# Altium footprint library BrewBit.PcbLib: 85 footprints (part 3 of 6)
Each footprint in its own frame and in the unit in brackets; x right, y up, seen from the top. Pads: shape width x height; smd on the part's side, far side on the other; paste and mask are expansions set on the pad; w line width, h text height; cw(c..) or ccw(c..) is an arc to the next point about the centre after c.
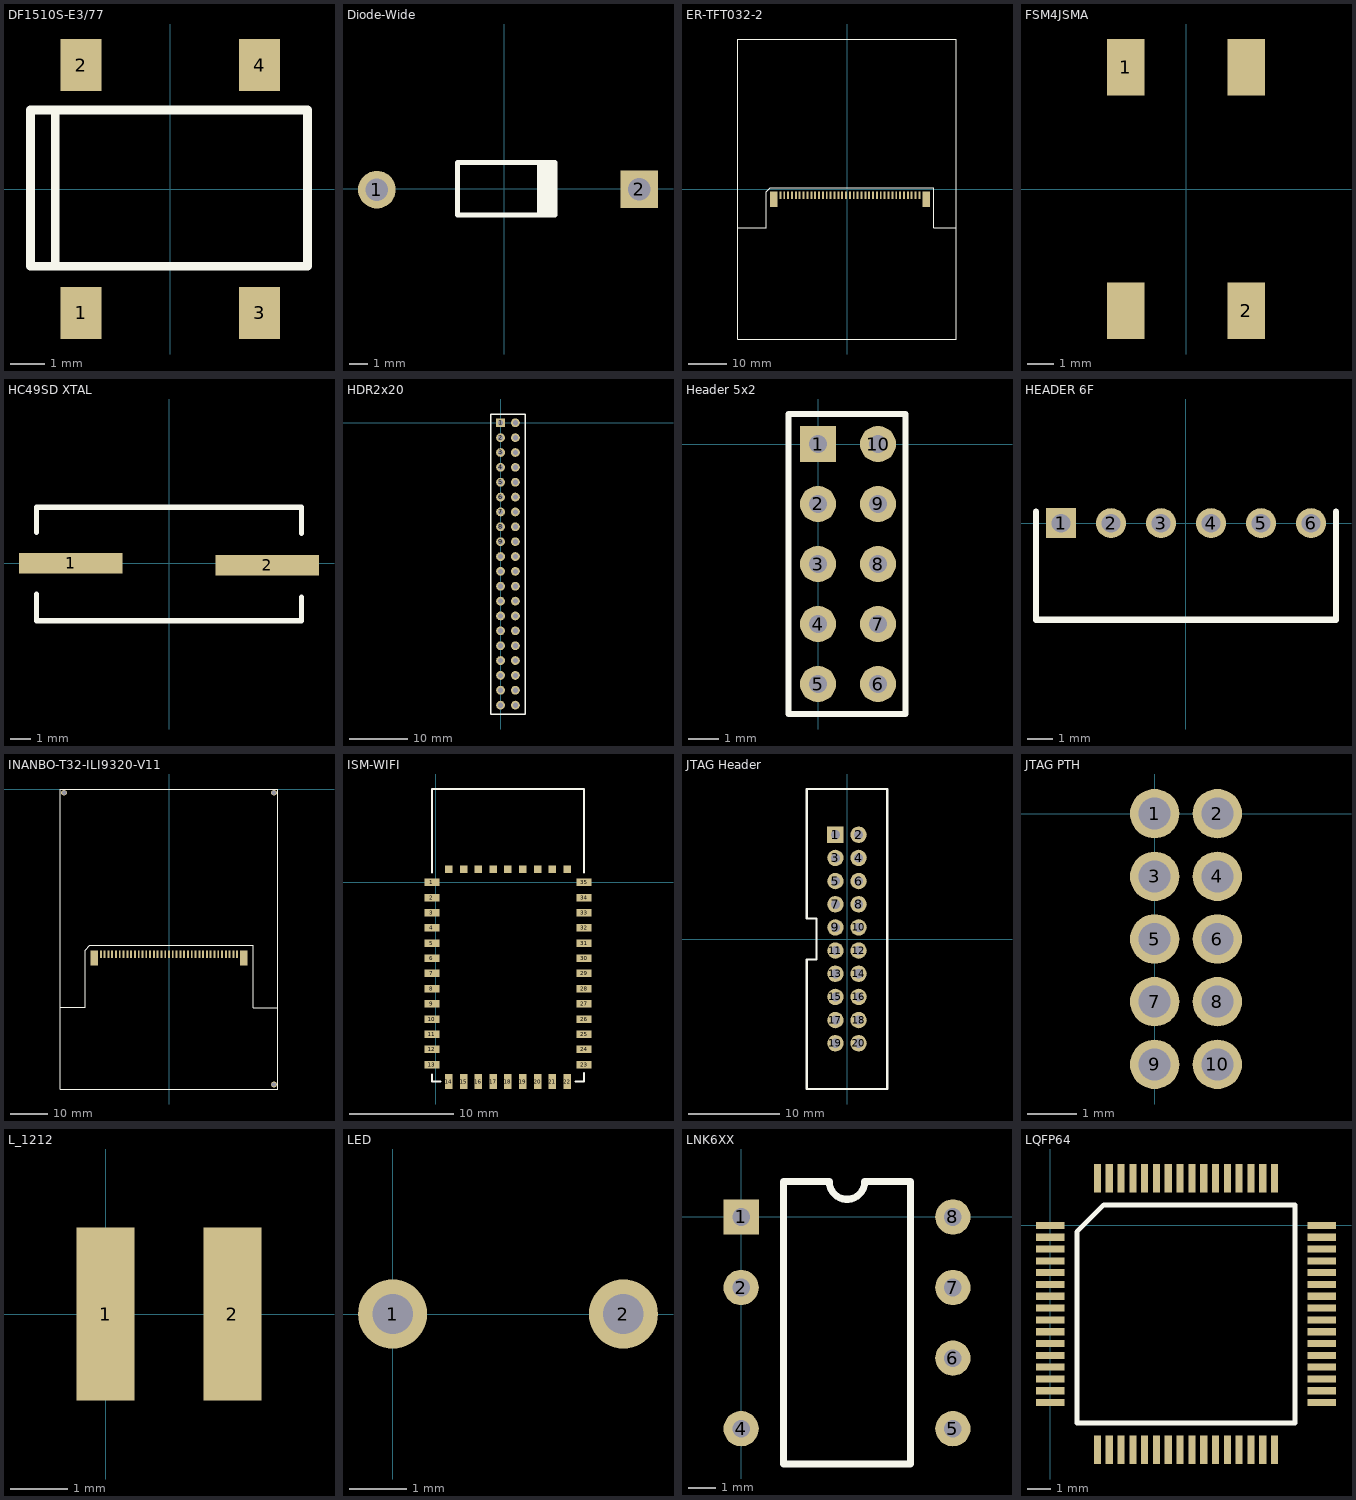
[diagram p2: the footprints below, top view; thin cyan lines are the x and y axes]

## DF1510S-E3/77 [mm] "BRIDGE RECTIFIER DIODE GPP 1.5A 1000V 4SMD"
pads (4):
  rect 1.2x1.52 smd: 1(-2.6,-3.61) 2(-2.6,3.61) 3(2.6,-3.61) 4(2.6,3.61)
Top Overlay:
  lines w0.254: -3.35,-2.25 -3.35,2.3 3.25,2.3 ; -4.075,-2.25 -4.075,2.3 4,2.3 4,-2.25 -4.075,-2.25

## Diode-Wide [mm] "Through Hole Diode Wide pitch"
pads (2):
  round 2 hole 1.2: 1(-6.75,-0.05)
  rect 2x2 hole 1.2: 2(7.15,-0.025)
Top Overlay:
  rectangle: 1.725,-1.425 2.625,1.397
  lines w0.254: -2.475,-1.397 2.7,-1.397 2.7,1.397 -2.475,1.397 -2.475,-1.397

## ER-TFT032-2 [mm] "East Rising 3.2\" TFT LCD"
height 4.6
pads (39):
  rect 0.5x2 smd: 1(-17.25,-1.65) 2(-16.25,-1.65) 3(-15.25,-1.65) 4(-14.25,-1.65) 5(-13.25,-1.65) 6(-12.25,-1.65) 7(-11.25,-1.65) 8(-10.25,-1.65) 9(-9.25,-1.65) 10(-8.25,-1.65) 11(-7.25,-1.65) 12(-6.25,-1.65) 13(-5.25,-1.65) 14(-4.25,-1.65) 15(-3.25,-1.65) 16(-2.25,-1.65) 17(-1.25,-1.65) 18(-0.25,-1.65) 19(0.75,-1.65) 20(1.75,-1.65) 21(2.75,-1.65) 22(3.75,-1.65) 23(4.75,-1.65) 24(5.75,-1.65) 25(6.75,-1.65) 26(7.75,-1.65) 27(8.75,-1.65) 28(9.75,-1.65) 29(10.75,-1.65) 30(11.75,-1.65) 31(12.75,-1.65) 32(13.75,-1.65) 33(14.75,-1.65) 34(15.75,-1.65) 35(16.75,-1.65) 36(17.75,-1.65) 37(18.75,-1.65)
  rect 2x4 smd: ""(-19.005,-2.65) ""(20.495,-2.65)
Top Overlay:
  lines w0.254: -28.25,-9.975 -20.9,-9.975 -20.9,-0.675 -19.85,0.375 22.425,0.375 22.425,-10.05 28.25,-10.05 ; -28.25,-38.85 -28.25,38.85 28.25,38.85 28.25,-38.85 -28.25,-38.85

## FSM4JSMA [mm] "SWITCH TACTILE SPST-NO 0.05A 12V"
pads (4):
  rect 1.4x2.1 smd: 1(-2.25,4.55) 2(2.25,-4.55) ""(-2.25,-4.55) ""(2.25,4.55)

## HC49SD XTAL [mm] "8 MHz Crystal"
pads (2):
  rect 5x1 smd: 1(-4.75,0) 2(4.75,-0.1)
Top Overlay:
  lines w0.254: -6.4,-1.5 -6.4,-2.775 6.4,-2.775 6.4,-1.65 ; -6.4,1.5 -6.4,2.7 6.4,2.7 6.4,1.45

## HDR2x20 [mm]
pads (40):
  rect 1.5x1.5 hole 0.9: 1(0,0)
  round 1.5 hole 0.9: 2(0,-2.54) 3(0,-5.08) 4(0,-7.62) 5(0,-10.16) 6(0,-12.7) 7(0,-15.24) 8(0,-17.78) 9(0,-20.32) 10(0,-22.86) 11(0,-25.4) 12(0,-27.94) 13(0,-30.48) 14(0,-33.02) 15(0,-35.56) 16(0,-38.1) 17(0,-40.64) 18(0,-43.18) 19(0,-45.72) 20(0,-48.26) 21(2.54,0) 22(2.54,-2.54) 23(2.54,-5.08) 24(2.54,-7.62) 25(2.54,-10.16) 26(2.54,-12.7) 27(2.54,-15.24) 28(2.54,-17.78) 29(2.54,-20.32) 30(2.54,-22.86) 31(2.54,-25.4) 32(2.54,-27.94) 33(2.54,-30.48) 34(2.54,-33.02) 35(2.54,-35.56) 36(2.54,-38.1) 37(2.54,-40.64) 38(2.54,-43.18) 39(2.54,-45.72) 40(2.54,-48.26)
Top Overlay:
  lines w0.254: -1.65,-49.775 4.2,-49.775 4.2,1.5 -1.65,1.5 -1.65,-49.775

## Header 5x2 [mm] "through holes for sensor board header"
pads (10):
  rect 1.2x1.2 hole 0.6: 1(0,0)
  round 1.2 hole 0.6: 2(0,-2) 3(0,-4) 4(0,-6) 5(0,-8) 6(2,-8) 7(2,-6) 8(2,-4) 9(2,-2) 10(2,0)
Top Overlay:
  lines w0.2: -0.991,-9 -0.991,1 2.921,1 2.921,-9 -0.991,-9

## HEADER 6F [mm]
pads (6):
  rect 1.2x1.2 hole 0.75: 1(-4.984,0)
  round 1.2 hole 0.75: 2(-2.984,0) 3(-0.984,0) 4(1.016,0) 5(3.016,0) 6(5.016,0)
Top Overlay:
  lines w0.254: -5.986,0.457 -5.986,-3.868 6.014,-3.868 6.014,0.457

## INANBO-T32-ILI9320-V11 [mm] "INANBO 3.2\" TFT LCD"
height 4.6
pads (39):
  rect 0.5x2 smd: 1(-18,-43.65) 2(-17,-43.65) 3(-16,-43.65) 4(-15,-43.65) 5(-14,-43.65) 6(-13,-43.65) 7(-12,-43.65) 8(-11,-43.65) 9(-10,-43.65) 10(-9,-43.65) 11(-8,-43.65) 12(-7,-43.65) 13(-6,-43.65) 14(-5,-43.65) 15(-4,-43.65) 16(-3,-43.65) 17(-2,-43.65) 18(-1,-43.65) 19(0,-43.65) 20(1,-43.65) 21(2,-43.65) 22(3,-43.65) 23(4,-43.65) 24(5,-43.65) 25(6,-43.65) 26(7,-43.65) 27(8,-43.65) 28(9,-43.65) 29(10,-43.65) 30(11,-43.65) 31(12,-43.65) 32(13,-43.65) 33(14,-43.65) 34(15,-43.65) 35(16,-43.65) 36(17,-43.65) 37(18,-43.65)
  rect 2x4 smd: ""(-19.755,-44.65) ""(19.745,-44.65)
via 27.7,-78 diameter 1.5 hole 1.15
via -27.7,-1 diameter 1.5 hole 1.15
via 27.7,-1 diameter 1.5 hole 1.15
Top Overlay:
  lines w0.254: -28.77,-57.625 -22.175,-57.625 -22.175,-42.6 -20.875,-41.3 22.225,-41.3 22.225,-57.7 28.77,-57.7 ; -28.77,-79.2 28.77,-79.2 28.77,0 -28.77,0 -28.77,-79.2

## ISM-WIFI [mm]
pads (44):
  rect 1.44x0.72 smd: 1(-0.358,0) 2(-0.358,-1.457) 3(-0.358,-2.914) 4(-0.358,-4.371) 5(-0.358,-5.828) 6(-0.358,-7.285) 7(-0.358,-8.742) 8(-0.358,-10.199) 9(-0.358,-11.656) 10(-0.358,-13.113) 11(-0.358,-14.57) 12(-0.358,-16.027) 13(-0.358,-17.484) 23(14.267,-17.484) 24(14.267,-16.027) 25(14.267,-14.57) 26(14.267,-13.113) 27(14.267,-11.656) 28(14.267,-10.199) 29(14.267,-8.742) 30(14.267,-7.285) 31(14.267,-5.828) 32(14.267,-4.371) 33(14.267,-2.914) 34(14.267,-1.457) 35(14.267,0)
  rect 0.72x1.44 smd: 14(1.269,-19.114) 15(2.691,-19.114) 16(4.112,-19.114) 17(5.533,-19.114) 18(6.954,-19.114) 19(8.375,-19.114) 20(9.796,-19.114) 21(11.217,-19.114) 22(12.638,-19.114)
  rect 0.72x0.72 smd: 36(12.638,1.27) 37(11.217,1.27) 38(9.796,1.27) 39(8.375,1.27) 40(6.954,1.27) 41(5.533,1.27) 42(4.112,1.27) 43(2.691,1.27) 44(1.269,1.27)
Top Overlay:
  lines w0.2: -0.361,-18.423 -0.361,-19.113 0.452,-19.113 ; -0.361,0.95 -0.361,8.975 14.267,8.975 14.267,0.95 ; 13.442,-19.113 14.267,-19.113 14.267,-18.293

## JTAG Header [mm] "SBH11-PBPC-D10-ST-BK"
height 9.1
pads (20):
  rect 1.8x1.8 hole 1: 1(-1.27,11.43)
  round 1.8 hole 1: 2(1.27,11.43) 3(-1.27,8.89) 4(1.27,8.89) 5(-1.27,6.35) 6(1.27,6.35) 7(-1.27,3.81) 8(1.27,3.81) 9(-1.27,1.27) 10(1.27,1.27) 11(-1.27,-1.27) 12(1.27,-1.27) 13(-1.27,-3.81) 14(1.27,-3.81) 15(-1.27,-6.35) 16(1.27,-6.35) 17(-1.27,-8.89) 18(1.27,-8.89) 19(-1.27,-11.43) 20(1.27,-11.43)
Top Overlay:
  lines w0.254: -4.4,-16.45 4.4,-16.45 4.4,16.45 -4.4,16.45 -4.4,2.25 -3.35,2.25 -3.35,-2.25 -4.4,-2.25 -4.4,-16.45

## JTAG PTH [mm]
pads (10):
  round 1 hole 0.65 mask+0: 1(0,0) 2(1.27,0) 3(0,-1.27) 4(1.27,-1.27) 5(0,-2.54) 6(1.27,-2.54) 7(0,-3.81) 8(1.27,-3.81) 9(0,-5.08) 10(1.27,-5.08)

## L_1212 [mm]
pads (2):
  rect 1x3 smd: 1(0,0) 2(2.2,0)

## LED [mm]
pads (2):
  round 1.2 hole 0.7: 1(0,0) 2(4,0)

## LNK6XX [mm]
pads (7):
  rect 1.27x1.27 hole 0.635: 1(0,0)
  round 1.27 hole 0.635: 2(0,-2.54) 4(0,-7.62) 5(7.62,-7.62) 6(7.62,-5.08) 7(7.62,-2.54) 8(7.62,0)
Top Overlay:
  lines w0.254: 1.524,-8.89 1.524,1.27 3.175,1.27 ccw(c3.81,1.27) 4.445,1.27 6.096,1.27 6.096,-8.89 1.524,-8.89

## LQFP64 [mm]
pads (64):
  rect 1.2x0.3 smd: 1(0,0) 2(0,-0.5) 3(0,-1) 4(0,-1.5) 5(0,-2) 6(0,-2.5) 7(0,-3) 8(0,-3.5) 9(0,-4) 10(0,-4.5) 11(0,-5) 12(0,-5.5) 13(0,-6) 14(0,-6.5) 15(0,-7) 16(0,-7.5) 33(11.5,-7.5) 34(11.5,-7) 35(11.5,-6.5) 36(11.5,-6) 37(11.5,-5.5) 38(11.5,-5) 39(11.5,-4.5) 40(11.5,-4) 41(11.5,-3.5) 42(11.5,-3) 43(11.5,-2.5) 44(11.5,-2) 45(11.5,-1.5) 46(11.5,-1) 47(11.5,-0.5) 48(11.5,0)
  rect 0.3x1.2 smd: 17(2,-9.5) 18(2.5,-9.5) 19(3,-9.5) 20(3.5,-9.5) 21(4,-9.5) 22(4.5,-9.5) 23(5,-9.5) 24(5.5,-9.5) 25(6,-9.5) 26(6.5,-9.5) 27(7,-9.5) 28(7.5,-9.5) 29(8,-9.5) 30(8.5,-9.5) 31(9,-9.5) 32(9.5,-9.5) 49(9.5,2) 50(9,2) 51(8.5,2) 52(8,2) 53(7.5,2) 54(7,2) 55(6.5,2) 56(6,2) 57(5.5,2) 58(5,2) 59(4.5,2) 60(4,2) 61(3.5,2) 62(3,2) 63(2.5,2) 64(2,2)
Top Overlay:
  lines w0.2: 1.135,-8.365 10.365,-8.365 10.365,0.865 2.27,0.865 1.135,-0.27 1.135,-8.365